# EAGLE library part ESP8266_ESP-07 (library HyTechDevices)
ESP8266 ESP-07 WIFI MODULE Protocol: 802.11 b/g/n Frequency Range: 2.4-2.5 GHz Security: WPA/WPA2 Compatible Standby Power: 1mW Transmission Power: +20 dBm FCC, CE, TELEC, SRRC, Wifi Alliance Certified Integrated TCP/IP Control Stack
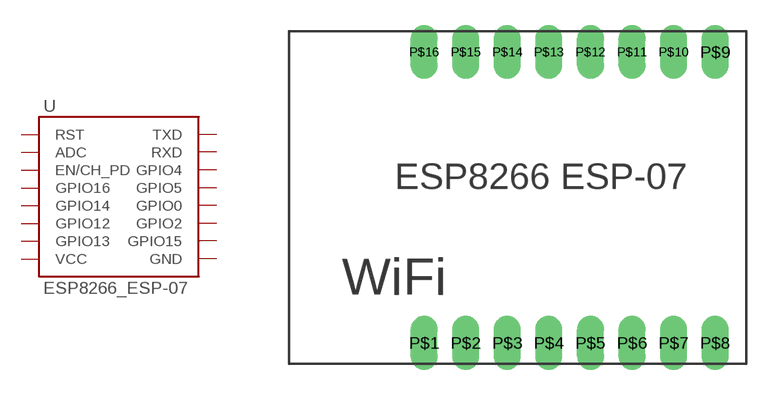
[diagram p47: symbol with the pads of ESP8266_ESP-07; footprint ESP8266_ESP-07]

Designator prefix -

## ESP8266_ESP-07  [ESP8266_ESP-07]
P$1  RST  pas
P$2  ADC  pas
P$3  EN/CH_PD  pas
P$4  GPIO16  pas
P$5  GPIO14  pas
P$6  GPIO12  pas
P$7  GPIO13  pas
P$8  VCC  pas
P$9  GND  pas
P$10  GPIO15  pas
P$11  GPIO2  pas
P$12  GPIO0  pas
P$13  GPIO5  pas
P$14  GPIO4  pas
P$15  RXD  pas
P$16  TXD  pas

## Footprint ESP8266_ESP-07 (pad centres in mm)
drill 0.8 long: P$1 6.5,-15; P$2 8.5,-15; P$3 10.5,-15; P$4 12.5,-15; P$5 14.5,-15; P$6 16.5,-15; P$7 18.5,-15; P$8 20.5,-15; P$9 20.5,-1; P$10 18.5,-1; P$11 16.5,-1; P$12 14.5,-1; P$13 12.5,-1; P$14 10.5,-1; P$15 8.5,-1; P$16 6.5,-1